# Altium integrated library ICs_Amplifiers.IntLib: 3 symbols
Pins are listed as number, name and electrical type; pins without a type are passive.

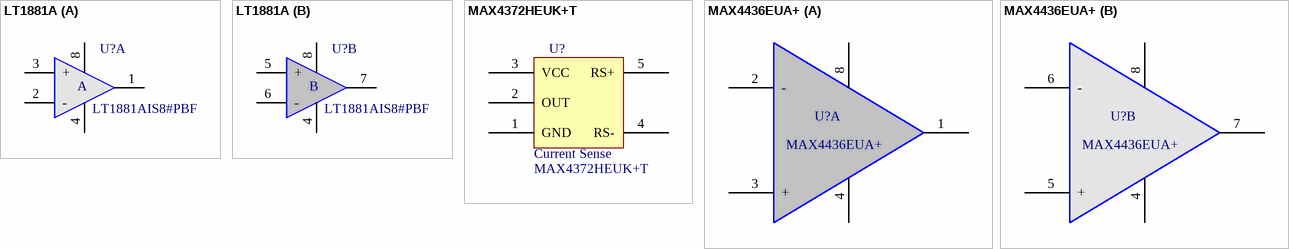
[diagram p0: symbols LT1881A to MAX4436EUA+]

## LT1881A
designator U?  Manufacturer Part Number: LT1881AIS8#PBF  (hidden comment: LT1881A)
IC OPAMP GP 1MHZ RRO 8SO; Manufacturer: Linear Technology; Amplifier Type: General Purpose; Number of Circuits: 2; Output Type: Rail-to-Rail; Slew Rate: 0.4 V/µs; Current - Input Bias: 150pA; Voltage - Input Offset: 25µV; Current - Supply: 850µA; Current - Output / Channel: 40mA; Voltage - Supply, Single/Dual (±): 2.7 V ~ 36 V, ±1.35 V ~ 18 V; Supplier 1: Digi-Key; RoHS: RoHS Compliant; Category: Integrated Circuits (ICs); Stock 1: 168; Pricing 1: 1=9.17, 25=6.0892, 100=4.5853 (USD); Packaging: Tube; Gain Bandwidth Product: 1MHz; -3db Bandwidth: -; Operating Temperature: -40°C ~ 85°C; Mounting Type: Surface Mount; Package / Case: 8-SOIC (0.154", 3.90mm Width); Supplier Device Package: 8-SO; ComponentLink1URL: http://www.linear.com/docs/4058; ComponentLink1Description: http://www.linear.com/docs/4058; Supplier Part Number 1: LT1881AIS8#PBF-ND
footprint SOIC-8 (8-Pin Small Outline Integrated Circuit 1.27 mm Pitch, IPC Low Density)
part A pins: 1, 2 -, 3 +, 4, 8
part B pins: 4, 5 +, 6 -, 7, 8
part A text: A
part B text: B

## MAX4372HEUK+T
designator U?, comment Current Sense  Manufacturer Part Number: MAX4372HEUK+T
IC OPAMP CUR SENS 110KHZ SOT23-5; Manufacturer: Maxim Integrated; Number of Circuits: 1; Current - Input Bias: 2µA; Voltage - Input Offset: 300µV; Current - Supply: 30µA; Voltage - Supply, Single/Dual (±): 2.7 V ~ 28 V; Supplier 1: Digi-Key; RoHS: RoHS Compliant; Category: Integrated Circuits (ICs); Stock 1: 8329; Pricing 1: 1=1.97, 10=1.862, 25=1.4892, 50=1.4148, 100=1.3031, 250=1.23604, 500=1.19136 (USD); Packaging: Cut Tape (CT); Amplifier Type: Current Sense; Output Type: -; Slew Rate: -; Gain Bandwidth Product: -; -3db Bandwidth: 110kHz; Current - Output / Channel: -; Operating Temperature: -40°C ~ 85°C; Mounting Type: Surface Mount; Package / Case: SC-74A, SOT-753; Supplier Device Package: SOT-23-5; ComponentLink1URL: http://datasheets.maximintegrated.com/en/ds/MAX4372-MAX4372T.pdf; ComponentLink1Description: http://datasheets.maximintegrated.com/en/ds/MAX4372-MAX4372T.pdf; Supplier Part Number 1: MAX4372HEUK+TCT-ND
footprint SOT23-5, MAX4372H (SOT23, 5-Leads, Body 3.0x3.0mm (max), Pitch 0.95mm, IPC Medium Density)
pins: 1 GND, 2 OUT, 3 VCC, 4 RS-, 5 RS+

## MAX4436EUA+
designator U?
IC OPAMP VFB 150MHZ 8UMAX; Manufacturer: Maxim Integrated; Amplifier Type: Voltage Feedback; Number of Circuits: 2; Slew Rate: 133 V/µs; Current - Input Bias: 14µA; Voltage - Input Offset: 1mV; Current - Supply: 15mA; Current - Output / Channel: 65mA; Voltage - Supply, Single/Dual (±): 4.5 V ~ 5.5 V; Supplier 1: Digi-Key; Manufacturer Part Number: MAX4436EUA+; RoHS: RoHS Compliant; Category: Integrated Circuits (ICs); Stock 1: 150; Pricing 1: 1=9.73, 10=9.243, 25=6.49, 50=6.1656, 100=4.7, 250=4.465, 500=4.131 (USD); Packaging: Tube; Output Type: -; Gain Bandwidth Product: -; -3db Bandwidth: 150MHz; Operating Temperature: -40°C ~ 85°C; Mounting Type: Surface Mount; Package / Case: 8-TSSOP, 8-MSOP (0.118", 3.00mm Width); Supplier Device Package: 8-uMAX; ComponentLink1URL: http://datasheets.maximintegrated.com/en/ds/MAX4434-MAX4437.pdf; ComponentLink1Description: http://datasheets.maximintegrated.com/en/ds/MAX4434-MAX4437.pdf; Supplier Part Number 1: MAX4436EUA+-ND
footprint MAXIM8uMAX (TSOP, 8-Leads, Body 3.0x3.0mm (max), Pitch 0.65mm, IPC Medium Density)
part A pins: 1, 2 -, 3 +, 4, 8
part B pins: 4, 5 +, 6 -, 7, 8